# EAGLE library part SAMD11D_24_PIN (library Komponenter)
http://ww1.microchip.com/downloads/en/DeviceDoc/Atmel-42363-SAM-D11_Datasheet.pdf
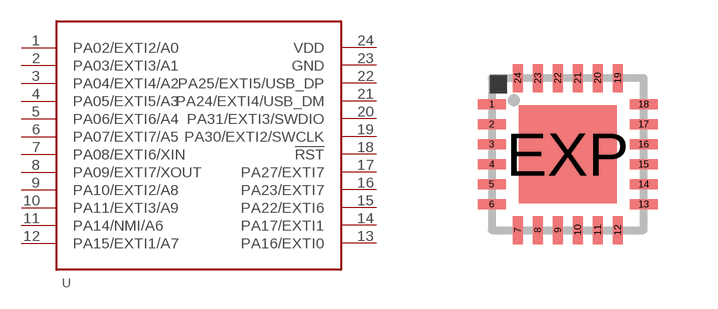
[diagram p4: symbol with the pads of QFN24-4X4; footprint QFN24-4X4]

Designator prefix -

## SAMD11D_24_PIN  [QFN24-4X4]
1  PA02/EXTI2/A0
2  PA03/EXTI3/A1
3  PA04/EXTI4/A2
4  PA05/EXTI5/A3
5  PA06/EXTI6/A4
6  PA07/EXTI7/A5
7  PA08/EXTI6/XIN
8  PA09/EXTI7/XOUT
9  PA10/EXTI2/A8
10  PA11/EXTI3/A9
11  PA14/NMI/A6
12  PA15/EXTI1/A7
13  PA16/EXTI0
14  PA17/EXTI1
15  PA22/EXTI6
16  PA23/EXTI7
17  PA27/EXTI7
18  !RST  in
19  PA30/EXTI2/SWCLK
20  PA31/EXTI3/SWDIO
21  PA24/EXTI4/USB_DM
22  PA25/EXTI5/USB_DP
23  GND  pwr
24  VDD  pwr

## Footprint QFN24-4X4 (pad centres in mm)
UF Package 24-Lead (4mm × 4mm) Plastic QFN Source: http://cds.linear.com/docs/Datasheet/5598f.pdf
smd 0.7 x 0.25: 1 -1.9,1.25; 2 -1.9,0.75; 3 -1.9,0.25; 4 -1.9,-0.25; 5 -1.9,-0.75; 6 -1.9,-1.25; 13 1.9,-1.25; 14 1.9,-0.75; 15 1.9,-0.25; 16 1.9,0.25; 17 1.9,0.75; 18 1.9,1.25
smd 0.25 x 0.7: 7 -1.25,-1.9; 8 -0.75,-1.9; 9 -0.25,-1.9; 10 0.25,-1.9; 11 0.75,-1.9; 12 1.25,-1.9; 19 1.25,1.9; 20 0.75,1.9; 21 0.25,1.9; 22 -0.25,1.9; 23 -0.75,1.9; 24 -1.25,1.9
smd 2.45 x 2.45: EXP 0,0